# EAGLE library part RGB_LED (library Kolja)
Mouser 720-LRTBGFTMST729Q5R, 0.6€, 2.0V 40mA Red, 3.0V 20mA Blue, 3.2V 20mA Green
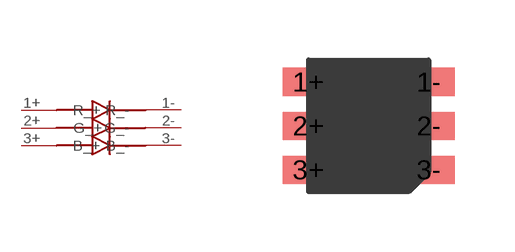
[diagram p3: symbol with the pads of PLCC-6; footprint PLCC-6]

Designator prefix -

## RGB_LED  [PLCC-6]
1+  R_+
1-  R_-
2+  G_+
2-  G_-
3+  B_+
3-  B_-

## Footprint PLCC-6 (pad centres in mm)
smd 1.3 x 0.7: 1+ 0,2.75; 1- 3,2.75; 2+ 0,1.65; 2- 3,1.65; 3+ 0,0.55; 3- 3,0.55